# Altium schematic symbol library SCH - MCU - NUVOTON - NUVOTON M258KE3AE.SchLib: 1 symbol
Pins are listed as number, name and electrical type; pins without a type are passive.

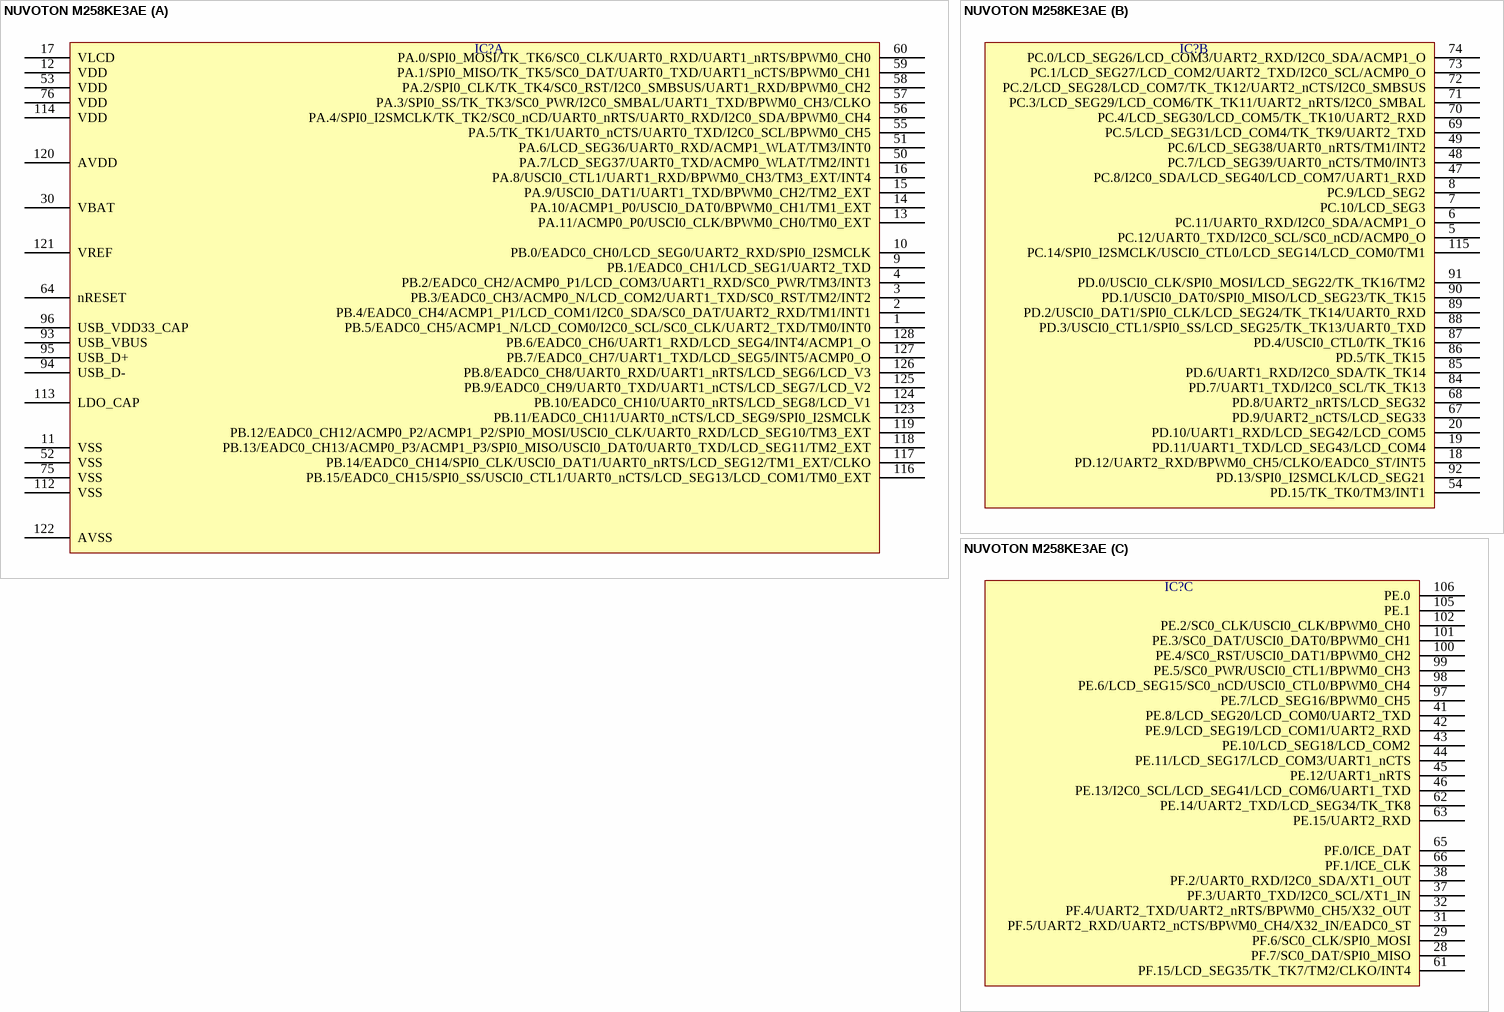
[diagram p0: symbol NUVOTON M258KE3AE]

## NUVOTON M258KE3AE
designator IC?  (value not drawn)
part A pins: 1 PB.5/EADC0_CH5/ACMP1_N/LCD_COM0/I2C0_SCL/SC0_CLK/UART2_TXD/TM0/INT0, 2 PB.4/EADC0_CH4/ACMP1_P1/LCD_COM1/I2C0_SDA/SC0_DAT/UART2_RXD/TM1/INT1, 3 PB.3/EADC0_CH3/ACMP0_N/LCD_COM2/UART1_TXD/SC0_RST/TM2/INT2, 4 PB.2/EADC0_CH2/ACMP0_P1/LCD_COM3/UART1_RXD/SC0_PWR/TM3/INT3, 9 PB.1/EADC0_CH1/LCD_SEG1/UART2_TXD, 10 PB.0/EADC0_CH0/LCD_SEG0/UART2_RXD/SPI0_I2SMCLK, 11 VSS, 12 VDD, 13 PA.11/ACMP0_P0/USCI0_CLK/BPWM0_CH0/TM0_EXT, 14 PA.10/ACMP1_P0/USCI0_DAT0/BPWM0_CH1/TM1_EXT, 15 PA.9/USCI0_DAT1/UART1_TXD/BPWM0_CH2/TM2_EXT, 16 PA.8/USCI0_CTL1/UART1_RXD/BPWM0_CH3/TM3_EXT/INT4, 17 VLCD, 30 VBAT, 50 PA.7/LCD_SEG37/UART0_TXD/ACMP0_WLAT/TM2/INT1, 51 PA.6/LCD_SEG36/UART0_RXD/ACMP1_WLAT/TM3/INT0, 52 VSS, 53 VDD, 55 PA.5/TK_TK1/UART0_nCTS/UART0_TXD/I2C0_SCL/BPWM0_CH5, 56 PA.4/SPI0_I2SMCLK/TK_TK2/SC0_nCD/UART0_nRTS/UART0_RXD/I2C0_SDA/BPWM0_CH4, 57 PA.3/SPI0_SS/TK_TK3/SC0_PWR/I2C0_SMBAL/UART1_TXD/BPWM0_CH3/CLKO, 58 PA.2/SPI0_CLK/TK_TK4/SC0_RST/I2C0_SMBSUS/UART1_RXD/BPWM0_CH2, 59 PA.1/SPI0_MISO/TK_TK5/SC0_DAT/UART0_TXD/UART1_nCTS/BPWM0_CH1, 60 PA.0/SPI0_MOSI/TK_TK6/SC0_CLK/UART0_RXD/UART1_nRTS/BPWM0_CH0, 64 nRESET, 75 VSS, 76 VDD, 93 USB_VBUS, 94 USB_D-, 95 USB_D+, 96 USB_VDD33_CAP, 112 VSS, 113 LDO_CAP, 114 VDD, 116 PB.15/EADC0_CH15/SPI0_SS/USCI0_CTL1/UART0_nCTS/LCD_SEG13/LCD_COM1/TM0_EXT, 117 PB.14/EADC0_CH14/SPI0_CLK/USCI0_DAT1/UART0_nRTS/LCD_SEG12/TM1_EXT/CLKO, 118 PB.13/EADC0_CH13/ACMP0_P3/ACMP1_P3/SPI0_MISO/USCI0_DAT0/UART0_TXD/LCD_SEG11/TM2_EXT, 119 PB.12/EADC0_CH12/ACMP0_P2/ACMP1_P2/SPI0_MOSI/USCI0_CLK/UART0_RXD/LCD_SEG10/TM3_EXT, 120 AVDD, 121 VREF, 122 AVSS, 123 PB.11/EADC0_CH11/UART0_nCTS/LCD_SEG9/SPI0_I2SMCLK, 124 PB.10/EADC0_CH10/UART0_nRTS/LCD_SEG8/LCD_V1, 125 PB.9/EADC0_CH9/UART0_TXD/UART1_nCTS/LCD_SEG7/LCD_V2, 126 PB.8/EADC0_CH8/UART0_RXD/UART1_nRTS/LCD_SEG6/LCD_V3, 127 PB.7/EADC0_CH7/UART1_TXD/LCD_SEG5/INT5/ACMP0_O, 128 PB.6/EADC0_CH6/UART1_RXD/LCD_SEG4/INT4/ACMP1_O
part B pins: 5 PC.12/UART0_TXD/I2C0_SCL/SC0_nCD/ACMP0_O, 6 PC.11/UART0_RXD/I2C0_SDA/ACMP1_O, 7 PC.10/LCD_SEG3, 8 PC.9/LCD_SEG2, 18 PD.12/UART2_RXD/BPWM0_CH5/CLKO/EADC0_ST/INT5, 19 PD.11/UART1_TXD/LCD_SEG43/LCD_COM4, 20 PD.10/UART1_RXD/LCD_SEG42/LCD_COM5, 47 PC.8/I2C0_SDA/LCD_SEG40/LCD_COM7/UART1_RXD, 48 PC.7/LCD_SEG39/UART0_nCTS/TM0/INT3, 49 PC.6/LCD_SEG38/UART0_nRTS/TM1/INT2, 54 PD.15/TK_TK0/TM3/INT1, 67 PD.9/UART2_nCTS/LCD_SEG33, 68 PD.8/UART2_nRTS/LCD_SEG32, 69 PC.5/LCD_SEG31/LCD_COM4/TK_TK9/UART2_TXD, 70 PC.4/LCD_SEG30/LCD_COM5/TK_TK10/UART2_RXD, 71 PC.3/LCD_SEG29/LCD_COM6/TK_TK11/UART2_nRTS/I2C0_SMBAL, 72 PC.2/LCD_SEG28/LCD_COM7/TK_TK12/UART2_nCTS/I2C0_SMBSUS, 73 PC.1/LCD_SEG27/LCD_COM2/UART2_TXD/I2C0_SCL/ACMP0_O, 74 PC.0/LCD_SEG26/LCD_COM3/UART2_RXD/I2C0_SDA/ACMP1_O, 84 PD.7/UART1_TXD/I2C0_SCL/TK_TK13, 85 PD.6/UART1_RXD/I2C0_SDA/TK_TK14, 86 PD.5/TK_TK15, 87 PD.4/USCI0_CTL0/TK_TK16, 88 PD.3/USCI0_CTL1/SPI0_SS/LCD_SEG25/TK_TK13/UART0_TXD, 89 PD.2/USCI0_DAT1/SPI0_CLK/LCD_SEG24/TK_TK14/UART0_RXD, 90 PD.1/USCI0_DAT0/SPI0_MISO/LCD_SEG23/TK_TK15, 91 PD.0/USCI0_CLK/SPI0_MOSI/LCD_SEG22/TK_TK16/TM2, 92 PD.13/SPI0_I2SMCLK/LCD_SEG21, 115 PC.14/SPI0_I2SMCLK/USCI0_CTL0/LCD_SEG14/LCD_COM0/TM1
part C pins: 28 PF.7/SC0_DAT/SPI0_MISO, 29 PF.6/SC0_CLK/SPI0_MOSI, 31 PF.5/UART2_RXD/UART2_nCTS/BPWM0_CH4/X32_IN/EADC0_ST, 32 PF.4/UART2_TXD/UART2_nRTS/BPWM0_CH5/X32_OUT, 37 PF.3/UART0_TXD/I2C0_SCL/XT1_IN, 38 PF.2/UART0_RXD/I2C0_SDA/XT1_OUT, 41 PE.8/LCD_SEG20/LCD_COM0/UART2_TXD, 42 PE.9/LCD_SEG19/LCD_COM1/UART2_RXD, 43 PE.10/LCD_SEG18/LCD_COM2, 44 PE.11/LCD_SEG17/LCD_COM3/UART1_nCTS, 45 PE.12/UART1_nRTS, 46 PE.13/I2C0_SCL/LCD_SEG41/LCD_COM6/UART1_TXD, 61 PF.15/LCD_SEG35/TK_TK7/TM2/CLKO/INT4, 62 PE.14/UART2_TXD/LCD_SEG34/TK_TK8, 63 PE.15/UART2_RXD, 65 PF.0/ICE_DAT, 66 PF.1/ICE_CLK, 97 PE.7/LCD_SEG16/BPWM0_CH5, 98 PE.6/LCD_SEG15/SC0_nCD/USCI0_CTL0/BPWM0_CH4, 99 PE.5/SC0_PWR/USCI0_CTL1/BPWM0_CH3, 100 PE.4/SC0_RST/USCI0_DAT1/BPWM0_CH2, 101 PE.3/SC0_DAT/USCI0_DAT0/BPWM0_CH1, 102 PE.2/SC0_CLK/USCI0_CLK/BPWM0_CH0, 105 PE.1, 106 PE.0